# Altium integrated library TI Microcontroller MSP430 16-bit Ultra-Low Power.IntLib: 1463 symbols (part 29 of 130)
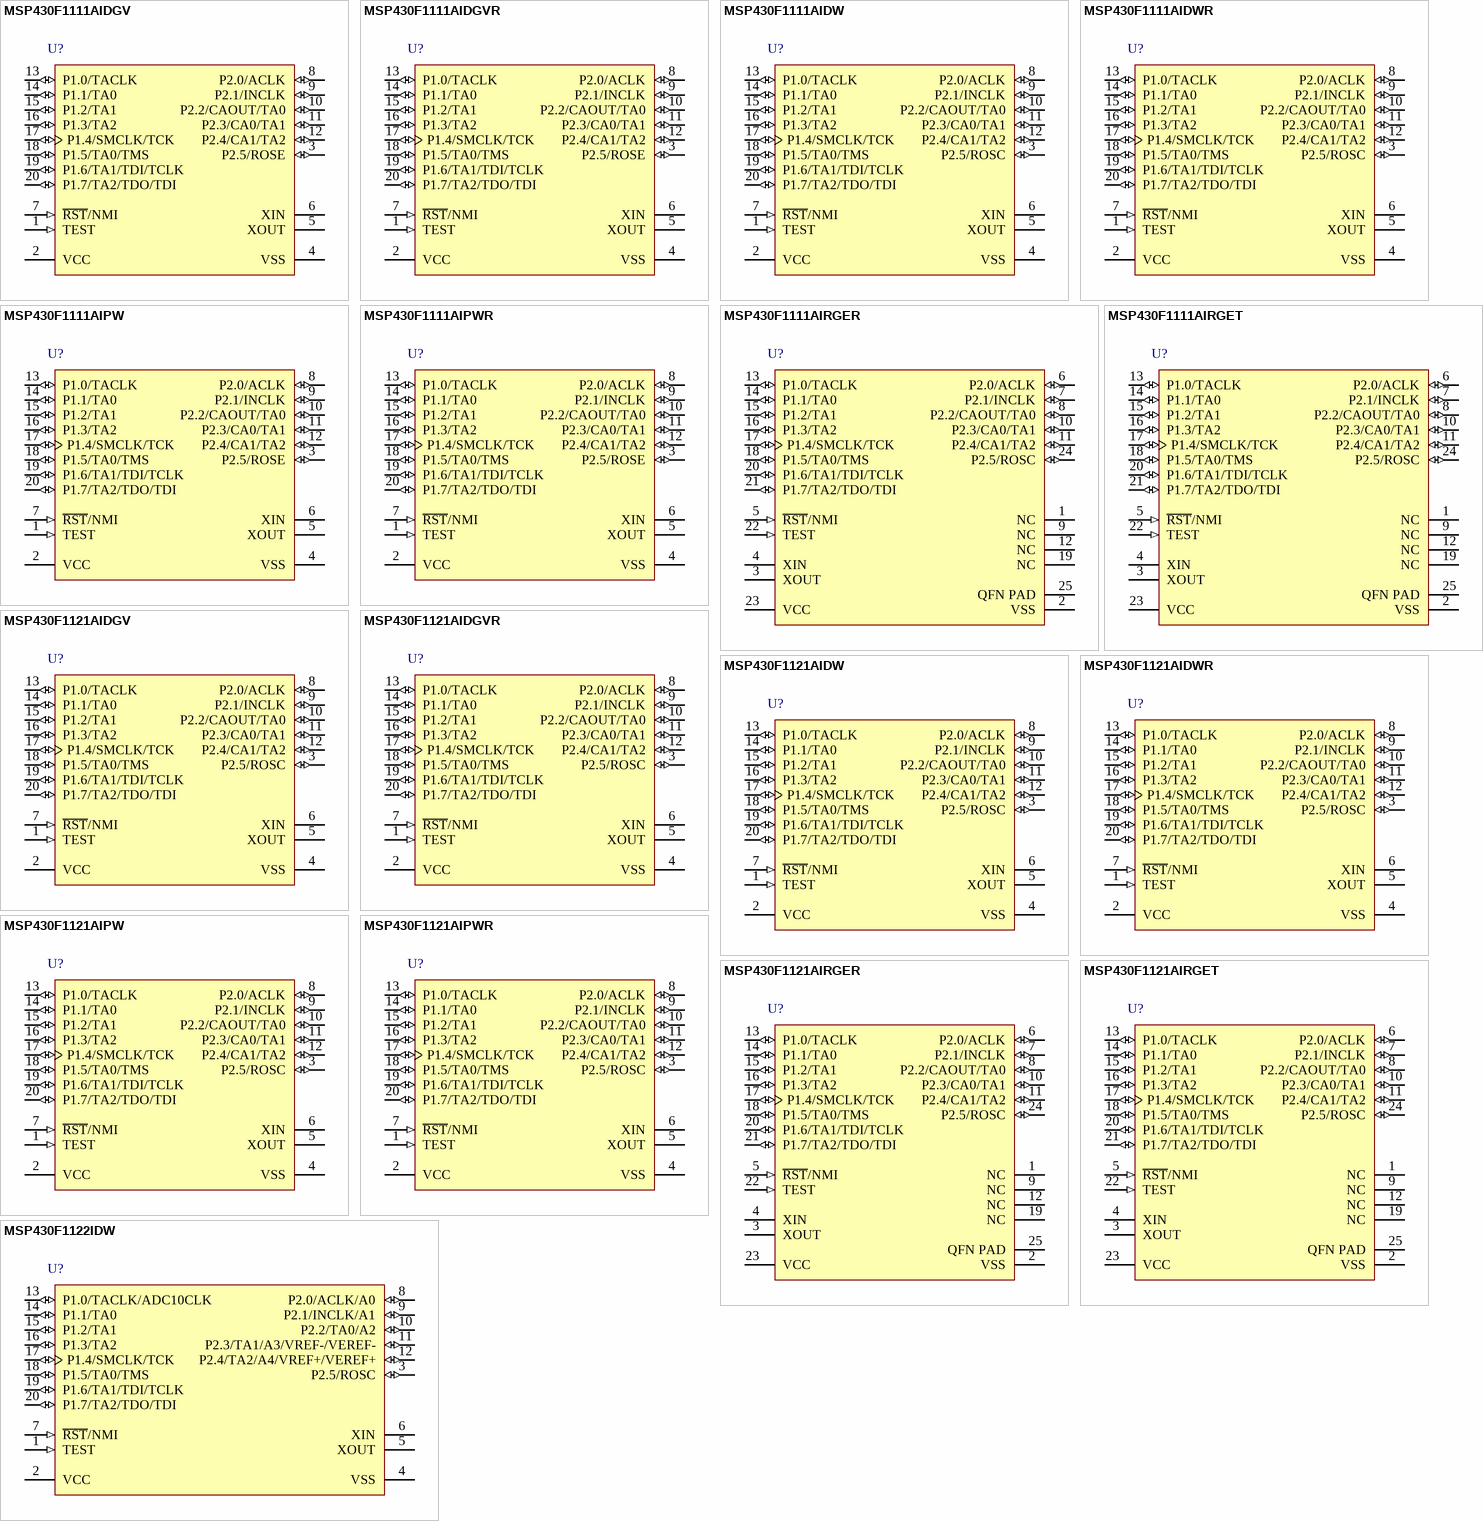
[diagram p251: symbols MSP430F1111AIDGV to MSP430F1122IDW]

## MSP430F1121AIRGET
designator U?
8 MHz Mixed Signal Microcontroller with 4 KB Flash, 256 B SRAM and 14 GPIOs, -40 to 85 degC, 24-pin QFN (RGE), Green (RoHS & no Sb/Br); Manufacturer: Texas Instruments; PartNumber: MSP430F1121AIRGET; ADC: Slope; Comparators: Yes; Flash(KB): 4; Frequency(MHz): 8; GPIO: 14; SRAM(B): 256; SubFamily: 1 Series; Timers - 16-bit: 1; DatasheetVersion: SLAS241I; PackageVersion: 4204104/G; PackageReference: RGE24-2450X2450TP; PackageDescription: 24-Pin Plastic Flat Pack, Body 4 x 4 mm, 0.5 mm Pitch; Supplier 1: Digi-Key; Supplier Part Number 1: 296-32162-2-ND; Supplier 2: Digi-Key; Supplier Part Number 2: 296-32162-1-ND; Supplier 3: Digi-Key; Supplier Part Number 3: 296-32162-6-ND; Supplier 4: Farnell; Supplier Part Number 4: 1903423; Supplier 5: Newark; Supplier Part Number 5: 73T9347; Supplier 6: Newark; Supplier Part Number 6: 90H2219; Supplier 7: Mouser; Supplier Part Number 7: 595-430F1121AIRGET; Eco-Plan: Green (RoHS & no Sb/Br); Watchdog: Yes; Mounting Technology: Surface Mount; Code_JEDEC: MO-220; ComponentLink1Description: Manufacturer URL; ComponentLink1URL: http://www.ti.com/; ComponentLink2Description: Datasheet; ComponentLink2URL: http://www.ti.com/general/docs/lit/getliterature.tsp?genericPartNumber=MSP430F1121A&fileType=pdf; ComponentLink3Description: Package Specification; ComponentLink3URL: http://www.ti.com/litv/pdf/mpqf124f
footprint TI-RGE24-2450X2450TP_N (QFN, 24-Leads, Body 4x4mm, Pitch 0.5mm, Thermal Pad 2.45x2.45mm, IPC Medium Density)
pins: 1 NC "NC pins not internally connected", 2 VSS (power) "Ground reference", 3 XOUT "Output terminal of crystal oscillator", 4 XIN "Input terminal of crystal oscillator", 5 ~{RST}/NMI (in), 6 P2.0/ACLK (io), 7 P2.1/INCLK (io), 8 P2.2/CAOUT/TA0 (io), 9 NC "NC pins not internally connected", 10 P2.3/CA0/TA1 (io), 11 P2.4/CA1/TA2 (io), 12 NC "NC pins not internally connected", 13 P1.0/TACLK (io), 14 P1.1/TA0 (io), 15 P1.2/TA1 (io), 16 P1.3/TA2 (io), 17 P1.4/SMCLK/TCK (io), 18 P1.5/TA0/TMS (io), 19 NC "NC pins not internally connected", 20 P1.6/TA1/TDI/TCLK (io), 21 P1.7/TA2/TDO/TDI (io), 22 TEST (in) "Selects test mode for JTAG pins on Port1. The device protection fuse is connected to TEST.", 23 VCC (power) "Supply voltage", 24 P2.5/ROSC (io), 25 QFN PAD (power) "QFN package pad connection to VSS recommended."

## MSP430F1122IDW
designator U?
8 MHz Mixed Signal Microcontroller with 4 KB Flash, 256 B SRAM and 14 GPIOs, -40 to 85 degC, 20-pin SOIC (DW), Green (RoHS & no Sb/Br); Manufacturer: Texas Instruments; PartNumber: MSP430F1122IDW; ADC: 10-bit SAR; ADC Channels: 5; Brown Out Reset: Yes; Flash(KB): 4; Frequency(MHz): 8; GPIO: 14; SRAM(B): 256; SubFamily: 1 Series; Timers - 16-bit: 1; DatasheetVersion: SLAS361D; PackageVersion: 4040000-4/G; PackageReference: DW20; PackageDescription: 20-Pin Plastic Small Outline, Body 12.8 x 7.5 mm, Pitch 1.27 mm; Supplier 1: Digi-Key; Supplier Part Number 1: 296-13776-5-ND; Supplier 2: Farnell; Supplier Part Number 2: 1471256; Supplier 3: Newark; Supplier Part Number 3: 72K7288; Supplier 4: Mouser; Supplier Part Number 4: 595-430F1122IDW; Eco-Plan: Green (RoHS & no Sb/Br); Temp Sensor: Yes; Watchdog: Yes; Mounting Technology: Surface Mount; Code_JEDEC: MO-013; ComponentLink1Description: Manufacturer URL; ComponentLink1URL: http://www.ti.com/; ComponentLink2Description: Datasheet; ComponentLink2URL: http://www.ti.com/general/docs/lit/getliterature.tsp?genericPartNumber=MSP430F1122&fileType=pdf; ComponentLink3Description: Package Specification; ComponentLink3URL: http://www.ti.com/lit/ml/mpds173a/mpds173a.pdf
footprint TI-DW20_N (SOIC, 20-Leads, Body 12.8x7.5mm, Pitch 1.27mm, IPC Medium Density)
pins: 1 TEST (in) "Selects test mode for JTAG pins on P1.x", 2 VCC (power) "Supply voltage", 3 P2.5/ROSC (io), 4 VSS (power) "Ground reference", 5 XOUT "Output terminal of crystal oscillator", 6 XIN "Input terminal of crystal oscillator", 7 ~{RST}/NMI (in), 8 P2.0/ACLK/A0 (io), 9 P2.1/INCLK/A1 (io), 10 P2.2/TA0/A2 (io), 11 P2.3/TA1/A3/VREF-/VEREF- (io), 12 P2.4/TA2/A4/VREF+/VEREF+ (io), 13 P1.0/TACLK/ADC10CLK (io), 14 P1.1/TA0 (io), 15 P1.2/TA1 (io), 16 P1.3/TA2 (io), 17 P1.4/SMCLK/TCK (io), 18 P1.5/TA0/TMS (io), 19 P1.6/TA1/TDI/TCLK (io), 20 P1.7/TA2/TDO/TDI (io)

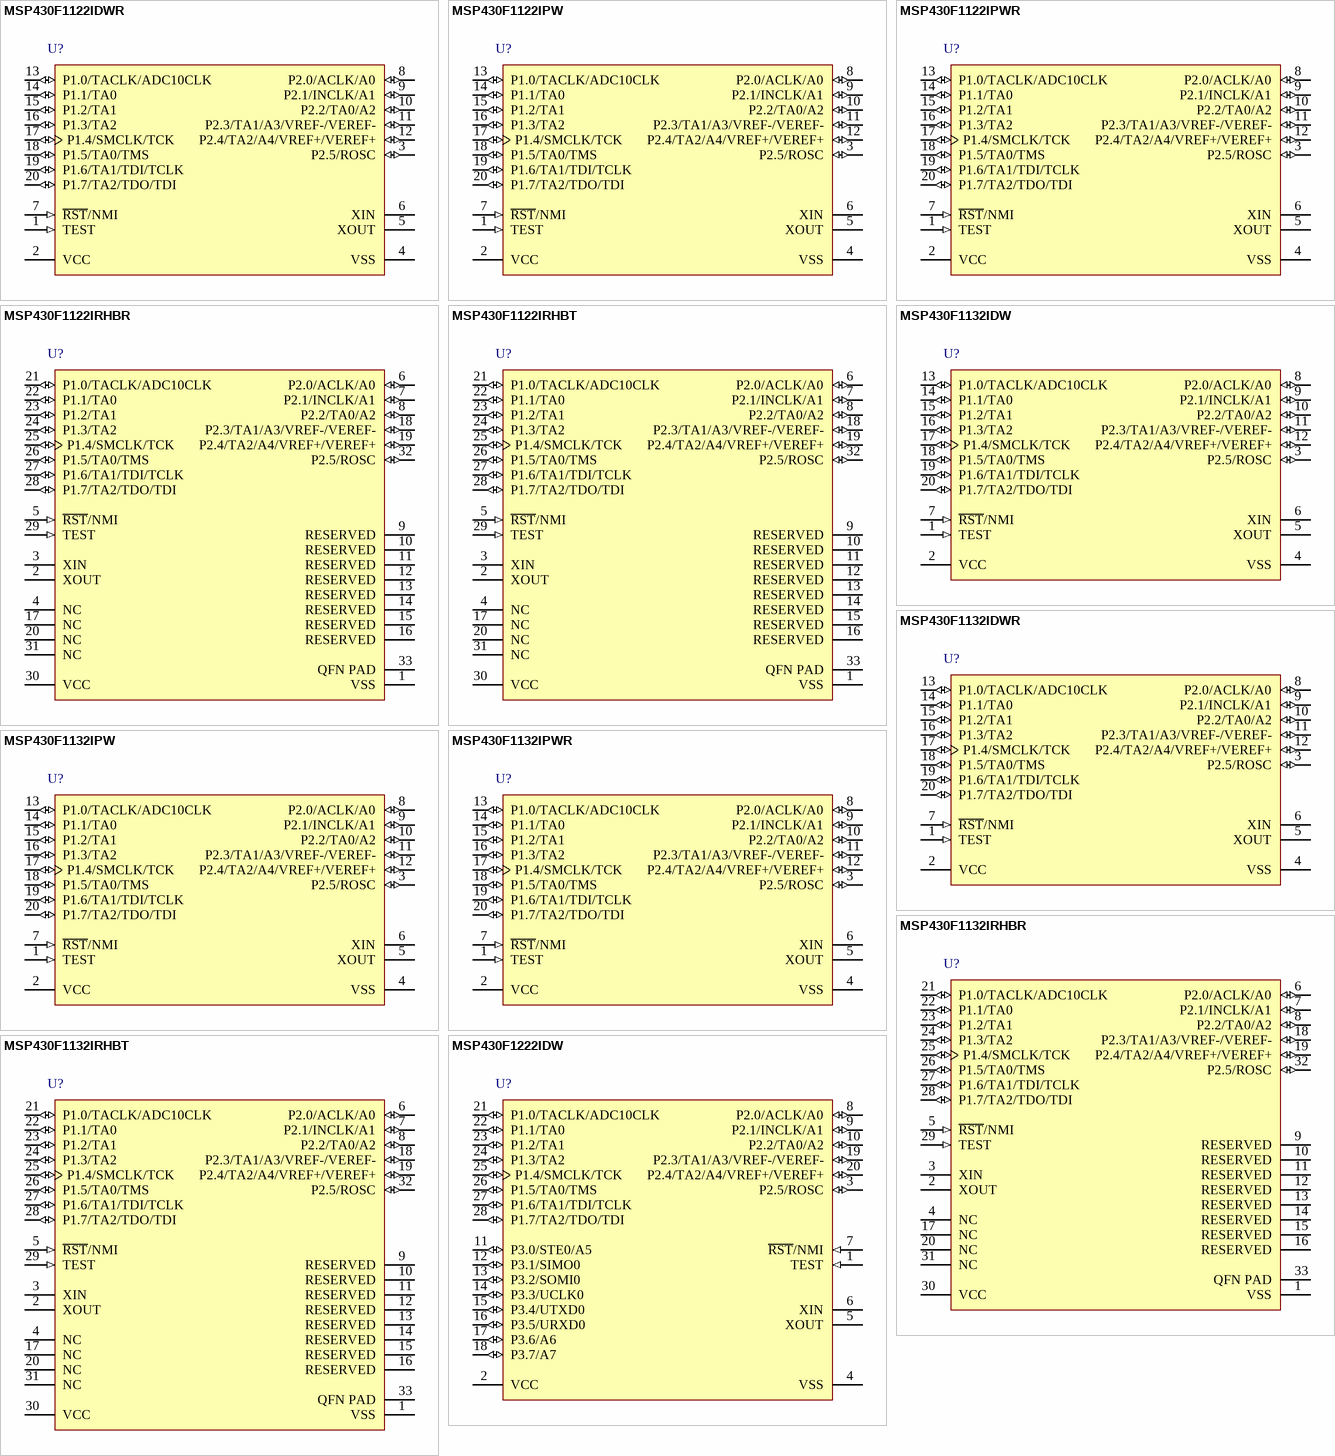
[diagram p41: symbols MSP430F1122IDWR to MSP430F1222IDW]

## MSP430F1122IDWR
designator U?
8 MHz Mixed Signal Microcontroller with 4 KB Flash, 256 B SRAM and 14 GPIOs, -40 to 85 degC, 20-pin SOIC (DW), Green (RoHS & no Sb/Br); Manufacturer: Texas Instruments; PartNumber: MSP430F1122IDWR; ADC: 10-bit SAR; ADC Channels: 5; Brown Out Reset: Yes; Flash(KB): 4; Frequency(MHz): 8; GPIO: 14; SRAM(B): 256; SubFamily: 1 Series; Timers - 16-bit: 1; DatasheetVersion: SLAS361D; PackageVersion: 4040000-4/G; PackageReference: DW20; PackageDescription: 20-Pin Plastic Small Outline, Body 12.8 x 7.5 mm, Pitch 1.27 mm; Supplier 1: Digi-Key; Supplier Part Number 1: MSP430F1122IDWR-ND; Supplier 2: Newark; Supplier Part Number 2: 02E6686; Supplier 3: Mouser; Supplier Part Number 3: 595-430F1122IDWR; Eco-Plan: Green (RoHS & no Sb/Br); Temp Sensor: Yes; Watchdog: Yes; Mounting Technology: Surface Mount; Code_JEDEC: MO-013; ComponentLink1Description: Manufacturer URL; ComponentLink1URL: http://www.ti.com/; ComponentLink2Description: Datasheet; ComponentLink2URL: http://www.ti.com/general/docs/lit/getliterature.tsp?genericPartNumber=MSP430F1122&fileType=pdf; ComponentLink3Description: Package Specification; ComponentLink3URL: http://www.ti.com/lit/ml/mpds173a/mpds173a.pdf
footprint TI-DW20_N (SOIC, 20-Leads, Body 12.8x7.5mm, Pitch 1.27mm, IPC Medium Density)
pins: 1 TEST (in) "Selects test mode for JTAG pins on P1.x", 2 VCC (power) "Supply voltage", 3 P2.5/ROSC (io), 4 VSS (power) "Ground reference", 5 XOUT "Output terminal of crystal oscillator", 6 XIN "Input terminal of crystal oscillator", 7 ~{RST}/NMI (in), 8 P2.0/ACLK/A0 (io), 9 P2.1/INCLK/A1 (io), 10 P2.2/TA0/A2 (io), 11 P2.3/TA1/A3/VREF-/VEREF- (io), 12 P2.4/TA2/A4/VREF+/VEREF+ (io), 13 P1.0/TACLK/ADC10CLK (io), 14 P1.1/TA0 (io), 15 P1.2/TA1 (io), 16 P1.3/TA2 (io), 17 P1.4/SMCLK/TCK (io), 18 P1.5/TA0/TMS (io), 19 P1.6/TA1/TDI/TCLK (io), 20 P1.7/TA2/TDO/TDI (io)

## MSP430F1122IPW
designator U?
8 MHz Mixed Signal Microcontroller with 4 KB Flash, 256 B SRAM and 14 GPIOs, -40 to 85 degC, 20-pin SOP (PW), Green (RoHS & no Sb/Br); Manufacturer: Texas Instruments; PartNumber: MSP430F1122IPW; ADC: 10-bit SAR; ADC Channels: 5; Brown Out Reset: Yes; Flash(KB): 4; Frequency(MHz): 8; GPIO: 14; SRAM(B): 256; SubFamily: 1 Series; Timers - 16-bit: 1; DatasheetVersion: SLAS361D; PackageVersion: 4040064-5/G; PackageReference: PW20; PackageDescription: 20-Pin Plastic Small Outline, Body 6.5 x 4.4 mm, 0.65 mm Pitch; Supplier 1: Digi-Key; Supplier Part Number 1: 296-13777-5-ND; Supplier 2: Farnell; Supplier Part Number 2: 1471257; Supplier 3: Newark; Supplier Part Number 3: 72K7289; Supplier 4: Mouser; Supplier Part Number 4: 595-430F1122IPW; Eco-Plan: Green (RoHS & no Sb/Br); Temp Sensor: Yes; Watchdog: Yes; Mounting Technology: Surface Mount; Code_JEDEC: MO-153; ComponentLink1Description: Manufacturer URL; ComponentLink1URL: http://www.ti.com/; ComponentLink2Description: Datasheet; ComponentLink2URL: http://www.ti.com/general/docs/lit/getliterature.tsp?genericPartNumber=MSP430F1122&fileType=pdf; ComponentLink3Description: Package Specification; ComponentLink3URL: http://www.ti.com.cn/cn/lit/ml/mpds362/mpds362.pdf
footprint TI-PW20_N (SOP, 20-Leads, Body 6.5x4.4mm, Pitch 0.65mm, IPC Medium Density)
pins: 1 TEST (in) "Selects test mode for JTAG pins on P1.x", 2 VCC (power) "Supply voltage", 3 P2.5/ROSC (io), 4 VSS (power) "Ground reference", 5 XOUT "Output terminal of crystal oscillator", 6 XIN "Input terminal of crystal oscillator", 7 ~{RST}/NMI (in), 8 P2.0/ACLK/A0 (io), 9 P2.1/INCLK/A1 (io), 10 P2.2/TA0/A2 (io), 11 P2.3/TA1/A3/VREF-/VEREF- (io), 12 P2.4/TA2/A4/VREF+/VEREF+ (io), 13 P1.0/TACLK/ADC10CLK (io), 14 P1.1/TA0 (io), 15 P1.2/TA1 (io), 16 P1.3/TA2 (io), 17 P1.4/SMCLK/TCK (io), 18 P1.5/TA0/TMS (io), 19 P1.6/TA1/TDI/TCLK (io), 20 P1.7/TA2/TDO/TDI (io)

## MSP430F1122IPWR
designator U?
8 MHz Mixed Signal Microcontroller with 4 KB Flash, 256 B SRAM and 14 GPIOs, -40 to 85 degC, 20-pin SOP (PW), Green (RoHS & no Sb/Br); Manufacturer: Texas Instruments; PartNumber: MSP430F1122IPWR; ADC: 10-bit SAR; ADC Channels: 5; Brown Out Reset: Yes; Flash(KB): 4; Frequency(MHz): 8; GPIO: 14; SRAM(B): 256; SubFamily: 1 Series; Timers - 16-bit: 1; DatasheetVersion: SLAS361D; PackageVersion: 4040064-5/G; PackageReference: PW20; PackageDescription: 20-Pin Plastic Small Outline, Body 6.5 x 4.4 mm, 0.65 mm Pitch; Supplier 1: Digi-Key; Supplier Part Number 1: 296-26174-2-ND; Supplier 2: Digi-Key; Supplier Part Number 2: 296-26174-1-ND; Supplier 3: Digi-Key; Supplier Part Number 3: 296-26174-6-ND; Supplier 4: Newark; Supplier Part Number 4: 02E6688; Supplier 5: Mouser; Supplier Part Number 5: 595-430F1122IPWR; Eco-Plan: Green (RoHS & no Sb/Br); Temp Sensor: Yes; Watchdog: Yes; Mounting Technology: Surface Mount; Code_JEDEC: MO-153; ComponentLink1Description: Manufacturer URL; ComponentLink1URL: http://www.ti.com/; ComponentLink2Description: Datasheet; ComponentLink2URL: http://www.ti.com/general/docs/lit/getliterature.tsp?genericPartNumber=MSP430F1122&fileType=pdf; ComponentLink3Description: Package Specification; ComponentLink3URL: http://www.ti.com.cn/cn/lit/ml/mpds362/mpds362.pdf
footprint TI-PW20_N (SOP, 20-Leads, Body 6.5x4.4mm, Pitch 0.65mm, IPC Medium Density)
pins: 1 TEST (in) "Selects test mode for JTAG pins on P1.x", 2 VCC (power) "Supply voltage", 3 P2.5/ROSC (io), 4 VSS (power) "Ground reference", 5 XOUT "Output terminal of crystal oscillator", 6 XIN "Input terminal of crystal oscillator", 7 ~{RST}/NMI (in), 8 P2.0/ACLK/A0 (io), 9 P2.1/INCLK/A1 (io), 10 P2.2/TA0/A2 (io), 11 P2.3/TA1/A3/VREF-/VEREF- (io), 12 P2.4/TA2/A4/VREF+/VEREF+ (io), 13 P1.0/TACLK/ADC10CLK (io), 14 P1.1/TA0 (io), 15 P1.2/TA1 (io), 16 P1.3/TA2 (io), 17 P1.4/SMCLK/TCK (io), 18 P1.5/TA0/TMS (io), 19 P1.6/TA1/TDI/TCLK (io), 20 P1.7/TA2/TDO/TDI (io)

## MSP430F1122IRHBR
designator U?
8 MHz Mixed Signal Microcontroller with 4 KB Flash, 256 B SRAM and 14 GPIOs, -40 to 85 degC, 32-pin QFN (RHB), Green (RoHS & no Sb/Br); Manufacturer: Texas Instruments; PartNumber: MSP430F1122IRHBR; ADC: 10-bit SAR; ADC Channels: 5; Brown Out Reset: Yes; Flash(KB): 4; Frequency(MHz): 8; GPIO: 14; SRAM(B): 256; SubFamily: 1 Series; Timers - 16-bit: 1; DatasheetVersion: SLAS361D; PackageVersion: 4204326/D; PackageReference: RHB32-3450X3450TP; PackageDescription: 32-Pin Plastic Flat Pack, Body 5 x 5 mm, Pitch 0.5 mm; Supplier 1: Digi-Key; Supplier Part Number 1: MSP430F1122IRHBR-ND; Supplier 2: Newark; Supplier Part Number 2: 21J8823; Supplier 3: Mouser; Supplier Part Number 3: 595-MSP430F1122IRHBR; Eco-Plan: Green (RoHS & no Sb/Br); Temp Sensor: Yes; Watchdog: Yes; Mounting Technology: Surface Mount; Code_JEDEC: MO-220; ComponentLink1Description: Manufacturer URL; ComponentLink1URL: http://www.ti.com/; ComponentLink2Description: Datasheet; ComponentLink2URL: http://www.ti.com/general/docs/lit/getliterature.tsp?genericPartNumber=MSP430F1122&fileType=pdf; ComponentLink3Description: Package Specification; ComponentLink3URL: http://www.ti.com/lit/ml/mpqf130c/mpqf130c.pdf
footprint TI-RHB32-3450X3450TP_N (QFN, 32-Leads, Body 5x5mm, Pitch 0.5mm, Thermal Pad 3.45x3.45mm, IPC Medium Density)
pins: 1 VSS (power) "Ground reference", 2 XOUT "Output terminal of crystal oscillator", 3 XIN "Input terminal of crystal oscillator", 4 NC "Not connected internally. Recommended connection to VSS", 5 ~{RST}/NMI (in), 6 P2.0/ACLK/A0 (io), 7 P2.1/INCLK/A1 (io), 8 P2.2/TA0/A2 (io), 9 RESERVED, 10 RESERVED, 11 RESERVED, 12 RESERVED, 13 RESERVED, 14 RESERVED, 15 RESERVED, 16 RESERVED, 17 NC "Not connected internally. Recommended connection to VSS", 18 P2.3/TA1/A3/VREF-/VEREF- (io), 19 P2.4/TA2/A4/VREF+/VEREF+ (io), 20 NC "Not connected internally. Recommended connection to VSS", 21 P1.0/TACLK/ADC10CLK (io), 22 P1.1/TA0 (io), 23 P1.2/TA1 (io), 24 P1.3/TA2 (io), 25 P1.4/SMCLK/TCK (io), 26 P1.5/TA0/TMS (io), 27 P1.6/TA1/TDI/TCLK (io), 28 P1.7/TA2/TDO/TDI (io), 29 TEST (in) "Selects test mode for JTAG pins on P1.x", 30 VCC (power) "Supply voltage", 31 NC "Not connected internally. Recommended connection to VSS", 32 P2.5/ROSC (io), 33 QFN PAD (power) "QFN package pad connection to VSS recommended"

## MSP430F1122IRHBT
designator U?
8 MHz Mixed Signal Microcontroller with 4 KB Flash, 256 B SRAM and 14 GPIOs, -40 to 85 degC, 32-pin QFN (RHB), Green (RoHS & no Sb/Br); Manufacturer: Texas Instruments; PartNumber: MSP430F1122IRHBT; ADC: 10-bit SAR; ADC Channels: 5; Brown Out Reset: Yes; Flash(KB): 4; Frequency(MHz): 8; GPIO: 14; SRAM(B): 256; SubFamily: 1 Series; Timers - 16-bit: 1; DatasheetVersion: SLAS361D; PackageVersion: 4204326/D; PackageReference: RHB32-3450X3450TP; PackageDescription: 32-Pin Plastic Flat Pack, Body 5 x 5 mm, Pitch 0.5 mm; Supplier 1: Digi-Key; Supplier Part Number 1: 296-17137-2-ND; Supplier 2: Digi-Key; Supplier Part Number 2: 296-17137-1-ND; Supplier 3: Digi-Key; Supplier Part Number 3: 296-17137-6-ND; Supplier 4: Newark; Supplier Part Number 4: 21J8824; Supplier 5: Mouser; Supplier Part Number 5: 595-MSP430F1122IRHBT; Eco-Plan: Green (RoHS & no Sb/Br); Temp Sensor: Yes; Watchdog: Yes; Mounting Technology: Surface Mount; Code_JEDEC: MO-220; ComponentLink1Description: Manufacturer URL; ComponentLink1URL: http://www.ti.com/; ComponentLink2Description: Datasheet; ComponentLink2URL: http://www.ti.com/general/docs/lit/getliterature.tsp?genericPartNumber=MSP430F1122&fileType=pdf; ComponentLink3Description: Package Specification; ComponentLink3URL: http://www.ti.com/lit/ml/mpqf130c/mpqf130c.pdf
footprint TI-RHB32-3450X3450TP_N (QFN, 32-Leads, Body 5x5mm, Pitch 0.5mm, Thermal Pad 3.45x3.45mm, IPC Medium Density)
pins: 1 VSS (power) "Ground reference", 2 XOUT "Output terminal of crystal oscillator", 3 XIN "Input terminal of crystal oscillator", 4 NC "Not connected internally. Recommended connection to VSS", 5 ~{RST}/NMI (in), 6 P2.0/ACLK/A0 (io), 7 P2.1/INCLK/A1 (io), 8 P2.2/TA0/A2 (io), 9 RESERVED, 10 RESERVED, 11 RESERVED, 12 RESERVED, 13 RESERVED, 14 RESERVED, 15 RESERVED, 16 RESERVED, 17 NC "Not connected internally. Recommended connection to VSS", 18 P2.3/TA1/A3/VREF-/VEREF- (io), 19 P2.4/TA2/A4/VREF+/VEREF+ (io), 20 NC "Not connected internally. Recommended connection to VSS", 21 P1.0/TACLK/ADC10CLK (io), 22 P1.1/TA0 (io), 23 P1.2/TA1 (io), 24 P1.3/TA2 (io), 25 P1.4/SMCLK/TCK (io), 26 P1.5/TA0/TMS (io), 27 P1.6/TA1/TDI/TCLK (io), 28 P1.7/TA2/TDO/TDI (io), 29 TEST (in) "Selects test mode for JTAG pins on P1.x", 30 VCC (power) "Supply voltage", 31 NC "Not connected internally. Recommended connection to VSS", 32 P2.5/ROSC (io), 33 QFN PAD (power) "QFN package pad connection to VSS recommended"

## MSP430F1132IDW
designator U?
8 MHz Mixed Signal Microcontroller with 8 KB Flash, 256 B SRAM and 14 GPIOs, -40 to 85 degC, 20-pin SOIC (DW), Green (RoHS & no Sb/Br); Manufacturer: Texas Instruments; PartNumber: MSP430F1132IDW; ADC: 10-bit SAR; ADC Channels: 5; Brown Out Reset: Yes; Flash(KB): 8; GPIO: 14; SRAM(B): 256; SubFamily: 1 Series; Timers - 16-bit: 1; DatasheetVersion: SLAS361D; PackageVersion: 4040000-4/G; PackageReference: DW20; PackageDescription: 20-Pin Plastic Small Outline, Body 12.8 x 7.5 mm, Pitch 1.27 mm; Supplier 1: Digi-Key; Supplier Part Number 1: 296-13778-5-ND; Supplier 2: Farnell; Supplier Part Number 2: 1537158; Supplier 3: Newark; Supplier Part Number 3: 02E6689; Supplier 4: Mouser; Supplier Part Number 4: 595-430F1132IDW; Eco-Plan: Green (RoHS & no Sb/Br); Frequency(MHz): 8; Temp Sensor: Yes; Watchdog: Yes; Mounting Technology: Surface Mount; Code_JEDEC: MO-013; ComponentLink1Description: Manufacturer URL; ComponentLink1URL: http://www.ti.com/; ComponentLink2Description: Datasheet; ComponentLink2URL: http://www.ti.com/general/docs/lit/getliterature.tsp?genericPartNumber=MSP430F1132&fileType=pdf; ComponentLink3Description: Package Specification; ComponentLink3URL: http://www.ti.com/lit/ml/mpds173a/mpds173a.pdf
footprint TI-DW20_N (SOIC, 20-Leads, Body 12.8x7.5mm, Pitch 1.27mm, IPC Medium Density)
pins: 1 TEST (in) "Selects test mode for JTAG pins on P1.x", 2 VCC (power) "Supply voltage", 3 P2.5/ROSC (io), 4 VSS (power) "Ground reference", 5 XOUT "Output terminal of crystal oscillator", 6 XIN "Input terminal of crystal oscillator", 7 ~{RST}/NMI (in), 8 P2.0/ACLK/A0 (io), 9 P2.1/INCLK/A1 (io), 10 P2.2/TA0/A2 (io), 11 P2.3/TA1/A3/VREF-/VEREF- (io), 12 P2.4/TA2/A4/VREF+/VEREF+ (io), 13 P1.0/TACLK/ADC10CLK (io), 14 P1.1/TA0 (io), 15 P1.2/TA1 (io), 16 P1.3/TA2 (io), 17 P1.4/SMCLK/TCK (io), 18 P1.5/TA0/TMS (io), 19 P1.6/TA1/TDI/TCLK (io), 20 P1.7/TA2/TDO/TDI (io)

## MSP430F1132IDWR
designator U?
8 MHz Mixed Signal Microcontroller with 8 KB Flash, 256 B SRAM and 14 GPIOs, -40 to 85 degC, 20-pin SOIC (DW), Green (RoHS & no Sb/Br); Manufacturer: Texas Instruments; PartNumber: MSP430F1132IDWR; ADC: 10-bit SAR; ADC Channels: 5; Brown Out Reset: Yes; Flash(KB): 8; GPIO: 14; SRAM(B): 256; SubFamily: 1 Series; Timers - 16-bit: 1; DatasheetVersion: SLAS361D; PackageVersion: 4040000-4/G; PackageReference: DW20; PackageDescription: 20-Pin Plastic Small Outline, Body 12.8 x 7.5 mm, Pitch 1.27 mm; Supplier 1: Digi-Key; Supplier Part Number 1: MSP430F1132IDWR-ND; Supplier 2: Newark; Supplier Part Number 2: 02E6690; Supplier 3: Mouser; Supplier Part Number 3: 595-430F1132IDWR; Eco-Plan: Green (RoHS & no Sb/Br); Frequency(MHz): 8; Temp Sensor: Yes; Watchdog: Yes; Mounting Technology: Surface Mount; Code_JEDEC: MO-013; ComponentLink1Description: Manufacturer URL; ComponentLink1URL: http://www.ti.com/; ComponentLink2Description: Datasheet; ComponentLink2URL: http://www.ti.com/general/docs/lit/getliterature.tsp?genericPartNumber=MSP430F1132&fileType=pdf; ComponentLink3Description: Package Specification; ComponentLink3URL: http://www.ti.com/lit/ml/mpds173a/mpds173a.pdf
footprint TI-DW20_N (SOIC, 20-Leads, Body 12.8x7.5mm, Pitch 1.27mm, IPC Medium Density)
pins: 1 TEST (in) "Selects test mode for JTAG pins on P1.x", 2 VCC (power) "Supply voltage", 3 P2.5/ROSC (io), 4 VSS (power) "Ground reference", 5 XOUT "Output terminal of crystal oscillator", 6 XIN "Input terminal of crystal oscillator", 7 ~{RST}/NMI (in), 8 P2.0/ACLK/A0 (io), 9 P2.1/INCLK/A1 (io), 10 P2.2/TA0/A2 (io), 11 P2.3/TA1/A3/VREF-/VEREF- (io), 12 P2.4/TA2/A4/VREF+/VEREF+ (io), 13 P1.0/TACLK/ADC10CLK (io), 14 P1.1/TA0 (io), 15 P1.2/TA1 (io), 16 P1.3/TA2 (io), 17 P1.4/SMCLK/TCK (io), 18 P1.5/TA0/TMS (io), 19 P1.6/TA1/TDI/TCLK (io), 20 P1.7/TA2/TDO/TDI (io)

## MSP430F1132IPW
designator U?
8 MHz Mixed Signal Microcontroller with 8 KB Flash, 256 B SRAM and 14 GPIOs, -40 to 85 degC, 20-pin SOP (PW), Green (RoHS & no Sb/Br); Manufacturer: Texas Instruments; PartNumber: MSP430F1132IPW; ADC: 10-bit SAR; ADC Channels: 5; Brown Out Reset: Yes; Flash(KB): 8; GPIO: 14; SRAM(B): 256; SubFamily: 1 Series; Timers - 16-bit: 1; DatasheetVersion: SLAS361D; PackageVersion: 4040064-5/G; PackageReference: PW20; PackageDescription: 20-Pin Plastic Small Outline, Body 6.5 x 4.4 mm, 0.65 mm Pitch; Supplier 1: Digi-Key; Supplier Part Number 1: 296-13779-5-ND; Supplier 2: Farnell; Supplier Part Number 2: 1135962; Supplier 3: Newark; Supplier Part Number 3: 02E6691; Supplier 4: Mouser; Supplier Part Number 4: 595-430F1132IPW; Eco-Plan: Green (RoHS & no Sb/Br); Frequency(MHz): 8; Temp Sensor: Yes; Watchdog: Yes; Mounting Technology: Surface Mount; Code_JEDEC: MO-153; ComponentLink1Description: Manufacturer URL; ComponentLink1URL: http://www.ti.com/; ComponentLink2Description: Datasheet; ComponentLink2URL: http://www.ti.com/general/docs/lit/getliterature.tsp?genericPartNumber=MSP430F1132&fileType=pdf; ComponentLink3Description: Package Specification; ComponentLink3URL: http://www.ti.com.cn/cn/lit/ml/mpds362/mpds362.pdf
footprint TI-PW20_N (SOP, 20-Leads, Body 6.5x4.4mm, Pitch 0.65mm, IPC Medium Density)
pins: 1 TEST (in) "Selects test mode for JTAG pins on P1.x", 2 VCC (power) "Supply voltage", 3 P2.5/ROSC (io), 4 VSS (power) "Ground reference", 5 XOUT "Output terminal of crystal oscillator", 6 XIN "Input terminal of crystal oscillator", 7 ~{RST}/NMI (in), 8 P2.0/ACLK/A0 (io), 9 P2.1/INCLK/A1 (io), 10 P2.2/TA0/A2 (io), 11 P2.3/TA1/A3/VREF-/VEREF- (io), 12 P2.4/TA2/A4/VREF+/VEREF+ (io), 13 P1.0/TACLK/ADC10CLK (io), 14 P1.1/TA0 (io), 15 P1.2/TA1 (io), 16 P1.3/TA2 (io), 17 P1.4/SMCLK/TCK (io), 18 P1.5/TA0/TMS (io), 19 P1.6/TA1/TDI/TCLK (io), 20 P1.7/TA2/TDO/TDI (io)

## MSP430F1132IPWR
designator U?
8 MHz Mixed Signal Microcontroller with 8 KB Flash, 256 B SRAM and 14 GPIOs, -40 to 85 degC, 20-pin SOP (PW), Green (RoHS & no Sb/Br); Manufacturer: Texas Instruments; PartNumber: MSP430F1132IPWR; ADC: 10-bit SAR; ADC Channels: 5; Brown Out Reset: Yes; Flash(KB): 8; GPIO: 14; SRAM(B): 256; SubFamily: 1 Series; Timers - 16-bit: 1; DatasheetVersion: SLAS361D; PackageVersion: 4040064-5/G; PackageReference: PW20; PackageDescription: 20-Pin Plastic Small Outline, Body 6.5 x 4.4 mm, 0.65 mm Pitch; Supplier 1: Digi-Key; Supplier Part Number 1: 296-26175-2-ND; Supplier 2: Digi-Key; Supplier Part Number 2: 296-26175-1-ND; Supplier 3: Digi-Key; Supplier Part Number 3: 296-26175-6-ND; Supplier 4: Newark; Supplier Part Number 4: 02E6692; Supplier 5: Mouser; Supplier Part Number 5: 595-430F1132IPWR; Eco-Plan: Green (RoHS & no Sb/Br); Frequency(MHz): 8; Temp Sensor: Yes; Watchdog: Yes; Mounting Technology: Surface Mount; Code_JEDEC: MO-153; ComponentLink1Description: Manufacturer URL; ComponentLink1URL: http://www.ti.com/; ComponentLink2Description: Datasheet; ComponentLink2URL: http://www.ti.com/general/docs/lit/getliterature.tsp?genericPartNumber=MSP430F1132&fileType=pdf; ComponentLink3Description: Package Specification; ComponentLink3URL: http://www.ti.com.cn/cn/lit/ml/mpds362/mpds362.pdf
footprint TI-PW20_N (SOP, 20-Leads, Body 6.5x4.4mm, Pitch 0.65mm, IPC Medium Density)
pins: 1 TEST (in) "Selects test mode for JTAG pins on P1.x", 2 VCC (power) "Supply voltage", 3 P2.5/ROSC (io), 4 VSS (power) "Ground reference", 5 XOUT "Output terminal of crystal oscillator", 6 XIN "Input terminal of crystal oscillator", 7 ~{RST}/NMI (in), 8 P2.0/ACLK/A0 (io), 9 P2.1/INCLK/A1 (io), 10 P2.2/TA0/A2 (io), 11 P2.3/TA1/A3/VREF-/VEREF- (io), 12 P2.4/TA2/A4/VREF+/VEREF+ (io), 13 P1.0/TACLK/ADC10CLK (io), 14 P1.1/TA0 (io), 15 P1.2/TA1 (io), 16 P1.3/TA2 (io), 17 P1.4/SMCLK/TCK (io), 18 P1.5/TA0/TMS (io), 19 P1.6/TA1/TDI/TCLK (io), 20 P1.7/TA2/TDO/TDI (io)

## MSP430F1132IRHBR
designator U?
8 MHz Mixed Signal Microcontroller with 8 KB Flash, 256 B SRAM and 14 GPIOs, -40 to 85 degC, 32-pin QFN (RHB), Green (RoHS & no Sb/Br); Manufacturer: Texas Instruments; PartNumber: MSP430F1132IRHBR; ADC: 10-bit SAR; ADC Channels: 5; Brown Out Reset: Yes; Flash(KB): 8; GPIO: 14; SRAM(B): 256; SubFamily: 1 Series; Timers - 16-bit: 1; DatasheetVersion: SLAS361D; PackageVersion: 4204326/D; PackageReference: RHB32-3450X3450TP; PackageDescription: 32-Pin Plastic Flat Pack, Body 5 x 5 mm, Pitch 0.5 mm; Supplier 1: Digi-Key; Supplier Part Number 1: MSP430F1132IRHBR-ND; Supplier 2: Newark; Supplier Part Number 2: 21J8825; Supplier 3: Mouser; Supplier Part Number 3: 595-MSP430F1132IRHBR; Eco-Plan: Green (RoHS & no Sb/Br); Frequency(MHz): 8; Temp Sensor: Yes; Watchdog: Yes; Mounting Technology: Surface Mount; Code_JEDEC: MO-220; ComponentLink1Description: Manufacturer URL; ComponentLink1URL: http://www.ti.com/; ComponentLink2Description: Datasheet; ComponentLink2URL: http://www.ti.com/general/docs/lit/getliterature.tsp?genericPartNumber=MSP430F1132&fileType=pdf; ComponentLink3Description: Package Specification; ComponentLink3URL: http://www.ti.com/lit/ml/mpqf130c/mpqf130c.pdf
footprint TI-RHB32-3450X3450TP_N (QFN, 32-Leads, Body 5x5mm, Pitch 0.5mm, Thermal Pad 3.45x3.45mm, IPC Medium Density)
pins: 1 VSS (power) "Ground reference", 2 XOUT "Output terminal of crystal oscillator", 3 XIN "Input terminal of crystal oscillator", 4 NC "Not connected internally. Recommended connection to VSS", 5 ~{RST}/NMI (in), 6 P2.0/ACLK/A0 (io), 7 P2.1/INCLK/A1 (io), 8 P2.2/TA0/A2 (io), 9 RESERVED, 10 RESERVED, 11 RESERVED, 12 RESERVED, 13 RESERVED, 14 RESERVED, 15 RESERVED, 16 RESERVED, 17 NC "Not connected internally. Recommended connection to VSS", 18 P2.3/TA1/A3/VREF-/VEREF- (io), 19 P2.4/TA2/A4/VREF+/VEREF+ (io), 20 NC "Not connected internally. Recommended connection to VSS", 21 P1.0/TACLK/ADC10CLK (io), 22 P1.1/TA0 (io), 23 P1.2/TA1 (io), 24 P1.3/TA2 (io), 25 P1.4/SMCLK/TCK (io), 26 P1.5/TA0/TMS (io), 27 P1.6/TA1/TDI/TCLK (io), 28 P1.7/TA2/TDO/TDI (io), 29 TEST (in) "Selects test mode for JTAG pins on P1.x", 30 VCC (power) "Supply voltage", 31 NC "Not connected internally. Recommended connection to VSS", 32 P2.5/ROSC (io), 33 QFN PAD (power) "QFN package pad connection to VSS recommended"

## MSP430F1132IRHBT
designator U?
8 MHz Mixed Signal Microcontroller with 8 KB Flash, 256 B SRAM and 14 GPIOs, -40 to 85 degC, 32-pin QFN (RHB), Green (RoHS & no Sb/Br); Manufacturer: Texas Instruments; PartNumber: MSP430F1132IRHBT; ADC: 10-bit SAR; ADC Channels: 5; Brown Out Reset: Yes; Flash(KB): 8; GPIO: 14; SRAM(B): 256; SubFamily: 1 Series; Timers - 16-bit: 1; DatasheetVersion: SLAS361D; PackageVersion: 4204326/D; PackageReference: RHB32-3450X3450TP; PackageDescription: 32-Pin Plastic Flat Pack, Body 5 x 5 mm, Pitch 0.5 mm; Supplier 1: Digi-Key; Supplier Part Number 1: 296-17133-2-ND; Supplier 2: Digi-Key; Supplier Part Number 2: 296-17133-1-ND; Supplier 3: Digi-Key; Supplier Part Number 3: 296-17133-6-ND; Supplier 4: Newark; Supplier Part Number 4: 21J8826; Supplier 5: Mouser; Supplier Part Number 5: 595-MSP430F1132IRHBT; Eco-Plan: Green (RoHS & no Sb/Br); Frequency(MHz): 8; Temp Sensor: Yes; Watchdog: Yes; Mounting Technology: Surface Mount; Code_JEDEC: MO-220; ComponentLink1Description: Manufacturer URL; ComponentLink1URL: http://www.ti.com/; ComponentLink2Description: Datasheet; ComponentLink2URL: http://www.ti.com/general/docs/lit/getliterature.tsp?genericPartNumber=MSP430F1132&fileType=pdf; ComponentLink3Description: Package Specification; ComponentLink3URL: http://www.ti.com/lit/ml/mpqf130c/mpqf130c.pdf
footprint TI-RHB32-3450X3450TP_N (QFN, 32-Leads, Body 5x5mm, Pitch 0.5mm, Thermal Pad 3.45x3.45mm, IPC Medium Density)
pins: 1 VSS (power) "Ground reference", 2 XOUT "Output terminal of crystal oscillator", 3 XIN "Input terminal of crystal oscillator", 4 NC "Not connected internally. Recommended connection to VSS", 5 ~{RST}/NMI (in), 6 P2.0/ACLK/A0 (io), 7 P2.1/INCLK/A1 (io), 8 P2.2/TA0/A2 (io), 9 RESERVED, 10 RESERVED, 11 RESERVED, 12 RESERVED, 13 RESERVED, 14 RESERVED, 15 RESERVED, 16 RESERVED, 17 NC "Not connected internally. Recommended connection to VSS", 18 P2.3/TA1/A3/VREF-/VEREF- (io), 19 P2.4/TA2/A4/VREF+/VEREF+ (io), 20 NC "Not connected internally. Recommended connection to VSS", 21 P1.0/TACLK/ADC10CLK (io), 22 P1.1/TA0 (io), 23 P1.2/TA1 (io), 24 P1.3/TA2 (io), 25 P1.4/SMCLK/TCK (io), 26 P1.5/TA0/TMS (io), 27 P1.6/TA1/TDI/TCLK (io), 28 P1.7/TA2/TDO/TDI (io), 29 TEST (in) "Selects test mode for JTAG pins on P1.x", 30 VCC (power) "Supply voltage", 31 NC "Not connected internally. Recommended connection to VSS", 32 P2.5/ROSC (io), 33 QFN PAD (power) "QFN package pad connection to VSS recommended"

## MSP430F1222IDW
designator U?
8 MHz Mixed Signal Microcontroller with 4 KB Flash, 256 B SRAM and 22 GPIOs, -40 to 85 degC, 28-SOIC (DW), Green (RoHS & no Sb/Br); Manufacturer: Texas Instruments; PartNumber: MSP430F1222IDW; ADC: 10-bit SAR; ADC Channels: 8; Brown Out Reset: Yes; Flash(KB): 4; GPIO: 22; SRAM(B): 256; SubFamily: 1 Series; Timers - 16-bit: 1; DatasheetVersion: SLAS361D; PackageVersion: 4040000-6/G; PackageReference: DW28; PackageDescription: 28-Pin Plastic Small Outline, Body 17.90 x 7.50 mm, Pitch 1.27 mm; Supplier 1: Digi-Key; Supplier Part Number 1: 296-13780-5-ND; Supplier 2: Farnell; Supplier Part Number 2: 1471264; Supplier 3: Newark; Supplier Part Number 3: 02E6693; Supplier 4: Mouser; Supplier Part Number 4: 595-430F1222IDW; Eco-Plan: Green (RoHS & no Sb/Br); Frequency(MHz): 8; Temp Sensor: Yes; USART: 1; Watchdog: Yes; Mounting Technology: Surface Mount; Code_JEDEC: MS-013; ComponentLink1Description: Manufacturer URL; ComponentLink1URL: http://www.ti.com/; ComponentLink2Description: Datasheet; ComponentLink2URL: http://www.ti.com/general/docs/lit/getliterature.tsp?genericPartNumber=MSP430F1222&fileType=pdf; ComponentLink3Description: Package Specification; ComponentLink3URL: http://www.ti.com/lit/ml/mpds175a/mpds175a.pdf
footprint TI-DW28_N (SOIC, 28-Leads, Body 17.9x7.5mm, Pitch 1.27mm, IPC Medium Density)
pins: 1 TEST (in) "Selects test mode for JTAG pins on P1.x", 2 VCC (power) "Supply voltage", 3 P2.5/ROSC (io), 4 VSS (power) "Ground reference", 5 XOUT "Output terminal of crystal oscillator", 6 XIN "Input terminal of crystal oscillator", 7 ~{RST}/NMI (in), 8 P2.0/ACLK/A0 (io), 9 P2.1/INCLK/A1 (io), 10 P2.2/TA0/A2 (io), 11 P3.0/STE0/A5 (io), 12 P3.1/SIMO0 (io), 13 P3.2/SOMI0 (io), 14 P3.3/UCLK0 (io), 15 P3.4/UTXD0 (io), 16 P3.5/URXD0 (io), 17 P3.6/A6 (io), 18 P3.7/A7 (io), 19 P2.3/TA1/A3/VREF-/VEREF- (io), 20 P2.4/TA2/A4/VREF+/VEREF+ (io), 21 P1.0/TACLK/ADC10CLK (io), 22 P1.1/TA0 (io), 23 P1.2/TA1 (io), 24 P1.3/TA2 (io), 25 P1.4/SMCLK/TCK (io), 26 P1.5/TA0/TMS (io), 27 P1.6/TA1/TDI/TCLK (io), 28 P1.7/TA2/TDO/TDI (io)

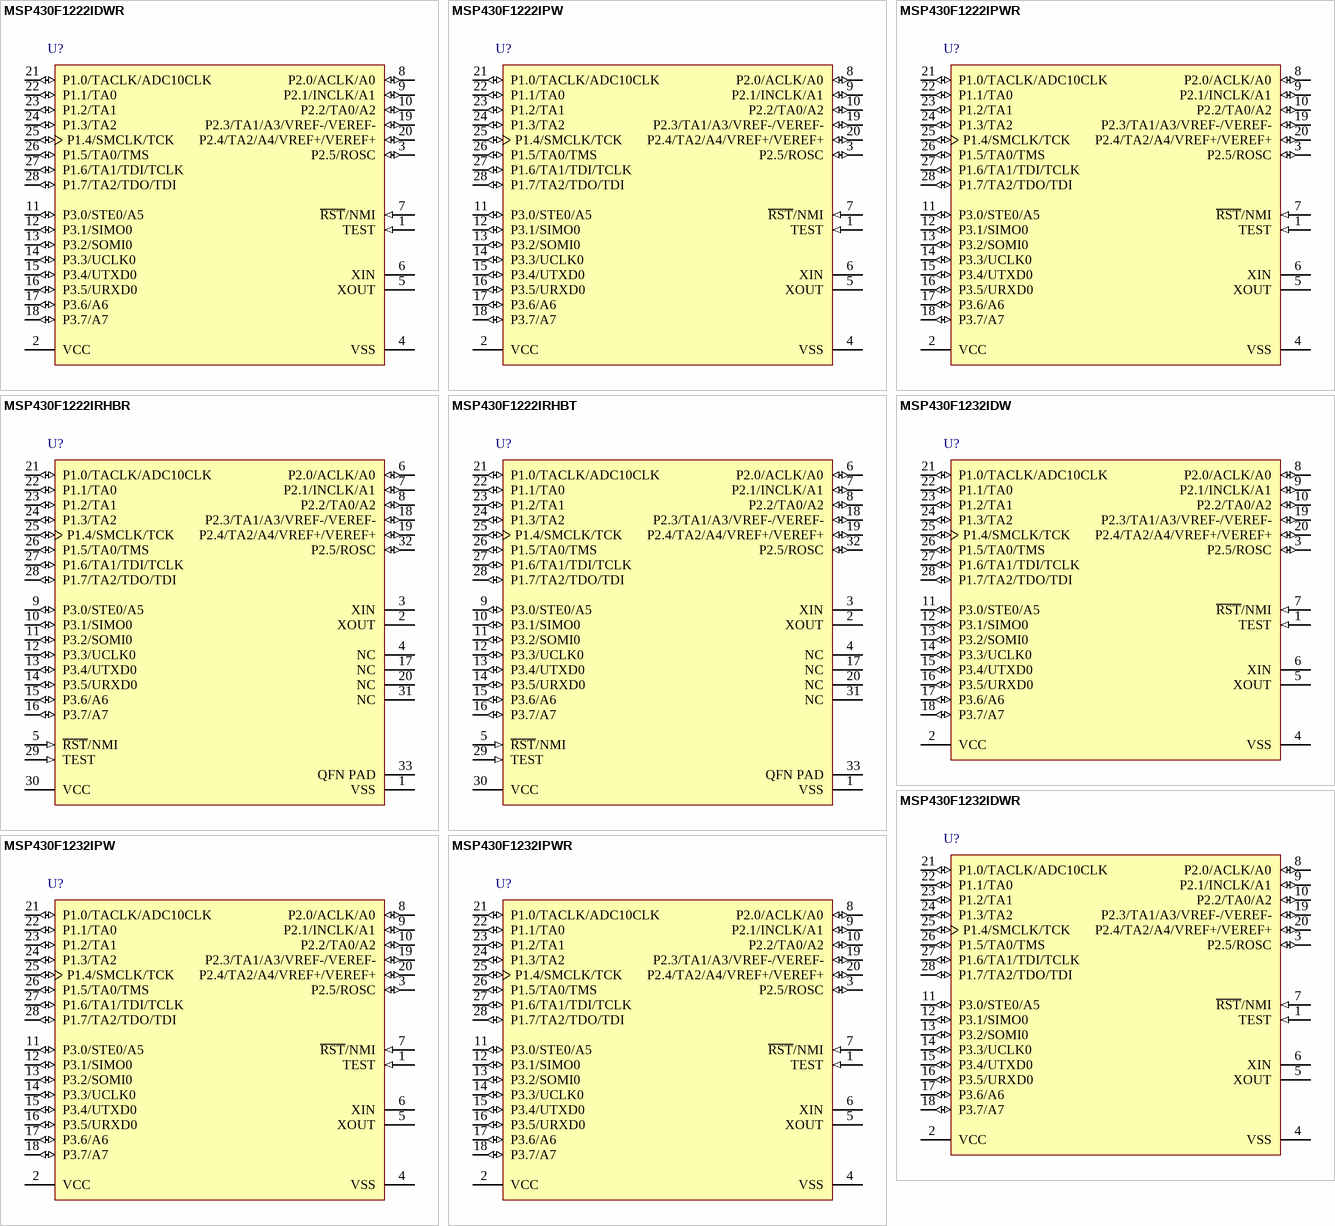
[diagram p42: symbols MSP430F1222IDWR to MSP430F1232IPWR]

## MSP430F1222IDWR
designator U?
8 MHz Mixed Signal Microcontroller with 4 KB Flash, 256 B SRAM and 22 GPIOs, -40 to 85 degC, 28-SOIC (DW), Green (RoHS & no Sb/Br); Manufacturer: Texas Instruments; PartNumber: MSP430F1222IDWR; ADC: 10-bit SAR; ADC Channels: 8; Brown Out Reset: Yes; Flash(KB): 4; GPIO: 22; SRAM(B): 256; SubFamily: 1 Series; Timers - 16-bit: 1; DatasheetVersion: SLAS361D; PackageVersion: 4040000-6/G; PackageReference: DW28; PackageDescription: 28-Pin Plastic Small Outline, Body 17.90 x 7.50 mm, Pitch 1.27 mm; Supplier 1: Digi-Key; Supplier Part Number 1: MSP430F1222IDWR-ND; Supplier 2: Newark; Supplier Part Number 2: 02E6694; Supplier 3: Mouser; Supplier Part Number 3: 595-430F1222IDWR; Eco-Plan: Green (RoHS & no Sb/Br); Frequency(MHz): 8; Temp Sensor: Yes; USART: 1; Watchdog: Yes; Mounting Technology: Surface Mount; Code_JEDEC: MS-013; ComponentLink1Description: Manufacturer URL; ComponentLink1URL: http://www.ti.com/; ComponentLink2Description: Datasheet; ComponentLink2URL: http://www.ti.com/general/docs/lit/getliterature.tsp?genericPartNumber=MSP430F1222&fileType=pdf; ComponentLink3Description: Package Specification; ComponentLink3URL: http://www.ti.com/lit/ml/mpds175a/mpds175a.pdf
footprint TI-DW28_N (SOIC, 28-Leads, Body 17.9x7.5mm, Pitch 1.27mm, IPC Medium Density)
pins: 1 TEST (in) "Selects test mode for JTAG pins on P1.x", 2 VCC (power) "Supply voltage", 3 P2.5/ROSC (io), 4 VSS (power) "Ground reference", 5 XOUT "Output terminal of crystal oscillator", 6 XIN "Input terminal of crystal oscillator", 7 ~{RST}/NMI (in), 8 P2.0/ACLK/A0 (io), 9 P2.1/INCLK/A1 (io), 10 P2.2/TA0/A2 (io), 11 P3.0/STE0/A5 (io), 12 P3.1/SIMO0 (io), 13 P3.2/SOMI0 (io), 14 P3.3/UCLK0 (io), 15 P3.4/UTXD0 (io), 16 P3.5/URXD0 (io), 17 P3.6/A6 (io), 18 P3.7/A7 (io), 19 P2.3/TA1/A3/VREF-/VEREF- (io), 20 P2.4/TA2/A4/VREF+/VEREF+ (io), 21 P1.0/TACLK/ADC10CLK (io), 22 P1.1/TA0 (io), 23 P1.2/TA1 (io), 24 P1.3/TA2 (io), 25 P1.4/SMCLK/TCK (io), 26 P1.5/TA0/TMS (io), 27 P1.6/TA1/TDI/TCLK (io), 28 P1.7/TA2/TDO/TDI (io)

## MSP430F1222IPW
designator U?
8 MHz Mixed Signal Microcontroller with 4 KB Flash, 256 B SRAM and 22 GPIOs, -40 to 85 degC, 28-SOP (PW), Green (RoHS & no Sb/Br); Manufacturer: Texas Instruments; PartNumber: MSP430F1222IPW; ADC: 10-bit SAR; ADC Channels: 8; Brown Out Reset: Yes; Flash(KB): 4; GPIO: 22; SRAM(B): 256; SubFamily: 1 Series; Timers - 16-bit: 1; DatasheetVersion: SLAS361D; PackageVersion: 4040064-7/G; PackageReference: PW28; PackageDescription: 28-Pin Plastic Small Outline, Body 9.7 x 4.4 mm, Pitch 0.65 mm; Supplier 1: Digi-Key; Supplier Part Number 1: 296-13781-5-ND; Supplier 2: Farnell; Supplier Part Number 2: 1471265; Supplier 3: Newark; Supplier Part Number 3: 02E6695; Supplier 4: Mouser; Supplier Part Number 4: 595-430F1222IPW; Eco-Plan: Green (RoHS & no Sb/Br); Frequency(MHz): 8; Temp Sensor: Yes; USART: 1; Watchdog: Yes; Mounting Technology: Surface Mount; Code_JEDEC: MO-153; ComponentLink1Description: Manufacturer URL; ComponentLink1URL: http://www.ti.com/; ComponentLink2Description: Datasheet; ComponentLink2URL: http://www.ti.com/general/docs/lit/getliterature.tsp?genericPartNumber=MSP430F1222&fileType=pdf; ComponentLink3Description: Package Specification; ComponentLink3URL: http://www.ti.com/litv/pdf/mpds364
footprint TI-PW28_N (SOP, 28-Leads, Body 9.7x4.4mm, Pitch 0.65mm, IPC Medium Density)
pins: 1 TEST (in) "Selects test mode for JTAG pins on P1.x", 2 VCC (power) "Supply voltage", 3 P2.5/ROSC (io), 4 VSS (power) "Ground reference", 5 XOUT "Output terminal of crystal oscillator", 6 XIN "Input terminal of crystal oscillator", 7 ~{RST}/NMI (in), 8 P2.0/ACLK/A0 (io), 9 P2.1/INCLK/A1 (io), 10 P2.2/TA0/A2 (io), 11 P3.0/STE0/A5 (io), 12 P3.1/SIMO0 (io), 13 P3.2/SOMI0 (io), 14 P3.3/UCLK0 (io), 15 P3.4/UTXD0 (io), 16 P3.5/URXD0 (io), 17 P3.6/A6 (io), 18 P3.7/A7 (io), 19 P2.3/TA1/A3/VREF-/VEREF- (io), 20 P2.4/TA2/A4/VREF+/VEREF+ (io), 21 P1.0/TACLK/ADC10CLK (io), 22 P1.1/TA0 (io), 23 P1.2/TA1 (io), 24 P1.3/TA2 (io), 25 P1.4/SMCLK/TCK (io), 26 P1.5/TA0/TMS (io), 27 P1.6/TA1/TDI/TCLK (io), 28 P1.7/TA2/TDO/TDI (io)

## MSP430F1222IPWR
designator U?
8 MHz Mixed Signal Microcontroller with 4 KB Flash, 256 B SRAM and 22 GPIOs, -40 to 85 degC, 28-SOP (PW), Green (RoHS & no Sb/Br); Manufacturer: Texas Instruments; PartNumber: MSP430F1222IPWR; ADC: 10-bit SAR; ADC Channels: 8; Brown Out Reset: Yes; Flash(KB): 4; GPIO: 22; SRAM(B): 256; SubFamily: 1 Series; Timers - 16-bit: 1; DatasheetVersion: SLAS361D; PackageVersion: 4040064-7/G; PackageReference: PW28; PackageDescription: 28-Pin Plastic Small Outline, Body 9.7 x 4.4 mm, Pitch 0.65 mm; Supplier 1: Digi-Key; Supplier Part Number 1: MSP430F1222IPWR-ND; Supplier 2: Newark; Supplier Part Number 2: 02E6696; Supplier 3: Mouser; Supplier Part Number 3: 595-430F1222IPWR; Eco-Plan: Green (RoHS & no Sb/Br); Frequency(MHz): 8; Temp Sensor: Yes; USART: 1; Watchdog: Yes; Mounting Technology: Surface Mount; Code_JEDEC: MO-153; ComponentLink1Description: Manufacturer URL; ComponentLink1URL: http://www.ti.com/; ComponentLink2Description: Datasheet; ComponentLink2URL: http://www.ti.com/general/docs/lit/getliterature.tsp?genericPartNumber=MSP430F1222&fileType=pdf; ComponentLink3Description: Package Specification; ComponentLink3URL: http://www.ti.com/litv/pdf/mpds364
footprint TI-PW28_N (SOP, 28-Leads, Body 9.7x4.4mm, Pitch 0.65mm, IPC Medium Density)
pins: 1 TEST (in) "Selects test mode for JTAG pins on P1.x", 2 VCC (power) "Supply voltage", 3 P2.5/ROSC (io), 4 VSS (power) "Ground reference", 5 XOUT "Output terminal of crystal oscillator", 6 XIN "Input terminal of crystal oscillator", 7 ~{RST}/NMI (in), 8 P2.0/ACLK/A0 (io), 9 P2.1/INCLK/A1 (io), 10 P2.2/TA0/A2 (io), 11 P3.0/STE0/A5 (io), 12 P3.1/SIMO0 (io), 13 P3.2/SOMI0 (io), 14 P3.3/UCLK0 (io), 15 P3.4/UTXD0 (io), 16 P3.5/URXD0 (io), 17 P3.6/A6 (io), 18 P3.7/A7 (io), 19 P2.3/TA1/A3/VREF-/VEREF- (io), 20 P2.4/TA2/A4/VREF+/VEREF+ (io), 21 P1.0/TACLK/ADC10CLK (io), 22 P1.1/TA0 (io), 23 P1.2/TA1 (io), 24 P1.3/TA2 (io), 25 P1.4/SMCLK/TCK (io), 26 P1.5/TA0/TMS (io), 27 P1.6/TA1/TDI/TCLK (io), 28 P1.7/TA2/TDO/TDI (io)

## MSP430F1222IRHBR
designator U?
8 MHz Mixed Signal Microcontroller with 4 KB Flash, 256 B SRAM and 22 GPIOs, -40 to 85 degC, 32-QFN (RHB), Green (RoHS & no Sb/Br); Manufacturer: Texas Instruments; PartNumber: MSP430F1222IRHBR; ADC: 10-bit SAR; ADC Channels: 8; Brown Out Reset: Yes; Flash(KB): 4; GPIO: 22; SRAM(B): 256; SubFamily: 1 Series; Timers - 16-bit: 1; DatasheetVersion: SLAS361D; PackageVersion: 4204326/D; PackageReference: RHB32-3450X3450TP; PackageDescription: 32-Pin Plastic Flat Pack, Body 5 x 5 mm, Pitch 0.5 mm; Supplier 1: Digi-Key; Supplier Part Number 1: MSP430F1222IRHBR-ND; Supplier 2: Newark; Supplier Part Number 2: 01J0576; Supplier 3: Mouser; Supplier Part Number 3: 595-430F1222IRHBR; Eco-Plan: Green (RoHS & no Sb/Br); Frequency(MHz): 8; Temp Sensor: Yes; USART: 1; Watchdog: Yes; Mounting Technology: Surface Mount; Code_JEDEC: MO-220; ComponentLink1Description: Manufacturer URL; ComponentLink1URL: http://www.ti.com/; ComponentLink2Description: Datasheet; ComponentLink2URL: http://www.ti.com/general/docs/lit/getliterature.tsp?genericPartNumber=MSP430F1222&fileType=pdf; ComponentLink3Description: Package Specification; ComponentLink3URL: http://www.ti.com/lit/ml/mpqf130c/mpqf130c.pdf
footprint TI-RHB32-3450X3450TP_N (QFN, 32-Leads, Body 5x5mm, Pitch 0.5mm, Thermal Pad 3.45x3.45mm, IPC Medium Density)
pins: 1 VSS (power) "Ground reference", 2 XOUT "Output terminal of crystal oscillator", 3 XIN "Input terminal of crystal oscillator", 4 NC "Not connected internally. Recommended connection to VSS", 5 ~{RST}/NMI (in), 6 P2.0/ACLK/A0 (io), 7 P2.1/INCLK/A1 (io), 8 P2.2/TA0/A2 (io), 9 P3.0/STE0/A5 (io), 10 P3.1/SIMO0 (io), 11 P3.2/SOMI0 (io), 12 P3.3/UCLK0 (io), 13 P3.4/UTXD0 (io), 14 P3.5/URXD0 (io), 15 P3.6/A6 (io), 16 P3.7/A7 (io), 17 NC "Not connected internally. Recommended connection to VSS", 18 P2.3/TA1/A3/VREF-/VEREF- (io), 19 P2.4/TA2/A4/VREF+/VEREF+ (io), 20 NC "Not connected internally. Recommended connection to VSS", 21 P1.0/TACLK/ADC10CLK (io), 22 P1.1/TA0 (io), 23 P1.2/TA1 (io), 24 P1.3/TA2 (io), 25 P1.4/SMCLK/TCK (io), 26 P1.5/TA0/TMS (io), 27 P1.6/TA1/TDI/TCLK (io), 28 P1.7/TA2/TDO/TDI (io), 29 TEST (in) "Selects test mode for JTAG pins on P1.x", 30 VCC (power) "Supply voltage", 31 NC "Not connected internally. Recommended connection to VSS", 32 P2.5/ROSC (io), 33 QFN PAD (power) "QFN package pad connection to VSS recommended"

## MSP430F1222IRHBT
designator U?
8 MHz Mixed Signal Microcontroller with 4 KB Flash, 256 B SRAM and 22 GPIOs, -40 to 85 degC, 32-pin QFN (RHB), Green (RoHS & no Sb/Br); Manufacturer: Texas Instruments; PartNumber: MSP430F1222IRHBT; ADC: 10-bit SAR; ADC Channels: 8; Brown Out Reset: Yes; Flash(KB): 4; GPIO: 22; SRAM(B): 256; SubFamily: 1 Series; Timers - 16-bit: 1; DatasheetVersion: SLAS361D; PackageVersion: 4204326/D; PackageReference: RHB32-3450X3450TP; PackageDescription: 32-Pin Plastic Flat Pack, Body 5 x 5 mm, Pitch 0.5 mm; Supplier 1: Digi-Key; Supplier Part Number 1: 296-16794-2-ND; Supplier 2: Digi-Key; Supplier Part Number 2: 296-16794-1-ND; Supplier 3: Digi-Key; Supplier Part Number 3: 296-16794-6-ND; Supplier 4: Farnell; Supplier Part Number 4: 1537159; Supplier 5: Newark; Supplier Part Number 5: 01J0577; Supplier 6: Mouser; Supplier Part Number 6: 595-430F1222IRHBT; Eco-Plan: Green (RoHS & no Sb/Br); Frequency(MHz): 8; Temp Sensor: Yes; USART: 1; Watchdog: Yes; Mounting Technology: Surface Mount; Code_JEDEC: MO-220; ComponentLink1Description: Manufacturer URL; ComponentLink1URL: http://www.ti.com/; ComponentLink2Description: Datasheet; ComponentLink2URL: http://www.ti.com/general/docs/lit/getliterature.tsp?genericPartNumber=MSP430F1222&fileType=pdf; ComponentLink3Description: Package Specification; ComponentLink3URL: http://www.ti.com/lit/ml/mpqf130c/mpqf130c.pdf
footprint TI-RHB32-3450X3450TP_N (QFN, 32-Leads, Body 5x5mm, Pitch 0.5mm, Thermal Pad 3.45x3.45mm, IPC Medium Density)
pins: 1 VSS (power) "Ground reference", 2 XOUT "Output terminal of crystal oscillator", 3 XIN "Input terminal of crystal oscillator", 4 NC "Not connected internally. Recommended connection to VSS", 5 ~{RST}/NMI (in), 6 P2.0/ACLK/A0 (io), 7 P2.1/INCLK/A1 (io), 8 P2.2/TA0/A2 (io), 9 P3.0/STE0/A5 (io), 10 P3.1/SIMO0 (io), 11 P3.2/SOMI0 (io), 12 P3.3/UCLK0 (io), 13 P3.4/UTXD0 (io), 14 P3.5/URXD0 (io), 15 P3.6/A6 (io), 16 P3.7/A7 (io), 17 NC "Not connected internally. Recommended connection to VSS", 18 P2.3/TA1/A3/VREF-/VEREF- (io), 19 P2.4/TA2/A4/VREF+/VEREF+ (io), 20 NC "Not connected internally. Recommended connection to VSS", 21 P1.0/TACLK/ADC10CLK (io), 22 P1.1/TA0 (io), 23 P1.2/TA1 (io), 24 P1.3/TA2 (io), 25 P1.4/SMCLK/TCK (io), 26 P1.5/TA0/TMS (io), 27 P1.6/TA1/TDI/TCLK (io), 28 P1.7/TA2/TDO/TDI (io), 29 TEST (in) "Selects test mode for JTAG pins on P1.x", 30 VCC (power) "Supply voltage", 31 NC "Not connected internally. Recommended connection to VSS", 32 P2.5/ROSC (io), 33 QFN PAD (power) "QFN package pad connection to VSS recommended"

## MSP430F1232IDW
designator U?
8 MHz Mixed Signal Microcontroller with 8 KB Flash, 256 B SRAM and 22 GPIOs, -40 to 85 degC, 28-pin SOIC (DW), Green (RoHS & no Sb/Br); Manufacturer: Texas Instruments; PartNumber: MSP430F1232IDW; ADC: 10-bit SAR; ADC Channels: 8; Brown Out Reset: Yes; GPIO: 22; SRAM(B): 256; SubFamily: 1 Series; Timers - 16-bit: 1; DatasheetVersion: SLAS361D; PackageVersion: 4040000-6/G; PackageReference: DW28; PackageDescription: 28-Pin Plastic Small Outline, Body 17.90 x 7.50 mm, Pitch 1.27 mm; Supplier 1: Digi-Key; Supplier Part Number 1: 296-13782-5-ND; Supplier 2: Farnell; Supplier Part Number 2: 1471266; Supplier 3: Newark; Supplier Part Number 3: 02E6697; Supplier 4: Mouser; Supplier Part Number 4: 595-430F1232IDW; Eco-Plan: Green (RoHS & no Sb/Br); Flash(KB): 8; Frequency(MHz): 8; Temp Sensor: Yes; USART: 1; Watchdog: Yes; Mounting Technology: Surface Mount; Code_JEDEC: MS-013; ComponentLink1Description: Manufacturer URL; ComponentLink1URL: http://www.ti.com/; ComponentLink2Description: Datasheet; ComponentLink2URL: http://www.ti.com/general/docs/lit/getliterature.tsp?genericPartNumber=MSP430F1232&fileType=pdf; ComponentLink3Description: Package Specification; ComponentLink3URL: http://www.ti.com/lit/ml/mpds175a/mpds175a.pdf
footprint TI-DW28_N (SOIC, 28-Leads, Body 17.9x7.5mm, Pitch 1.27mm, IPC Medium Density)
pins: 1 TEST (in) "Selects test mode for JTAG pins on P1.x", 2 VCC (power) "Supply voltage", 3 P2.5/ROSC (io), 4 VSS (power) "Ground reference", 5 XOUT "Output terminal of crystal oscillator", 6 XIN "Input terminal of crystal oscillator", 7 ~{RST}/NMI (in), 8 P2.0/ACLK/A0 (io), 9 P2.1/INCLK/A1 (io), 10 P2.2/TA0/A2 (io), 11 P3.0/STE0/A5 (io), 12 P3.1/SIMO0 (io), 13 P3.2/SOMI0 (io), 14 P3.3/UCLK0 (io), 15 P3.4/UTXD0 (io), 16 P3.5/URXD0 (io), 17 P3.6/A6 (io), 18 P3.7/A7 (io), 19 P2.3/TA1/A3/VREF-/VEREF- (io), 20 P2.4/TA2/A4/VREF+/VEREF+ (io), 21 P1.0/TACLK/ADC10CLK (io), 22 P1.1/TA0 (io), 23 P1.2/TA1 (io), 24 P1.3/TA2 (io), 25 P1.4/SMCLK/TCK (io), 26 P1.5/TA0/TMS (io), 27 P1.6/TA1/TDI/TCLK (io), 28 P1.7/TA2/TDO/TDI (io)

## MSP430F1232IDWR
designator U?
8 MHz Mixed Signal Microcontroller with 8 KB Flash, 256 B SRAM and 22 GPIOs, -40 to 85 degC, 28-pin SOIC (DW), Green (RoHS & no Sb/Br); Manufacturer: Texas Instruments; PartNumber: MSP430F1232IDWR; ADC: 10-bit SAR; ADC Channels: 8; Brown Out Reset: Yes; GPIO: 22; SRAM(B): 256; SubFamily: 1 Series; Timers - 16-bit: 1; DatasheetVersion: SLAS361D; PackageVersion: 4040000-6/G; PackageReference: DW28; PackageDescription: 28-Pin Plastic Small Outline, Body 17.90 x 7.50 mm, Pitch 1.27 mm; Supplier 1: Digi-Key; Supplier Part Number 1: 296-26176-2-ND; Supplier 2: Digi-Key; Supplier Part Number 2: 296-26176-1-ND; Supplier 3: Digi-Key; Supplier Part Number 3: 296-26176-6-ND; Supplier 4: Newark; Supplier Part Number 4: 02E6698; Supplier 5: Mouser; Supplier Part Number 5: 595-430F1232IDWR; Eco-Plan: Green (RoHS & no Sb/Br); Flash(KB): 8; Frequency(MHz): 8; Temp Sensor: Yes; USART: 1; Watchdog: Yes; Mounting Technology: Surface Mount; Code_JEDEC: MS-013; ComponentLink1Description: Manufacturer URL; ComponentLink1URL: http://www.ti.com/; ComponentLink2Description: Datasheet; ComponentLink2URL: http://www.ti.com/general/docs/lit/getliterature.tsp?genericPartNumber=MSP430F1232&fileType=pdf; ComponentLink3Description: Package Specification; ComponentLink3URL: http://www.ti.com/lit/ml/mpds175a/mpds175a.pdf
footprint TI-DW28_N (SOIC, 28-Leads, Body 17.9x7.5mm, Pitch 1.27mm, IPC Medium Density)
pins: 1 TEST (in) "Selects test mode for JTAG pins on P1.x", 2 VCC (power) "Supply voltage", 3 P2.5/ROSC (io), 4 VSS (power) "Ground reference", 5 XOUT "Output terminal of crystal oscillator", 6 XIN "Input terminal of crystal oscillator", 7 ~{RST}/NMI (in), 8 P2.0/ACLK/A0 (io), 9 P2.1/INCLK/A1 (io), 10 P2.2/TA0/A2 (io), 11 P3.0/STE0/A5 (io), 12 P3.1/SIMO0 (io), 13 P3.2/SOMI0 (io), 14 P3.3/UCLK0 (io), 15 P3.4/UTXD0 (io), 16 P3.5/URXD0 (io), 17 P3.6/A6 (io), 18 P3.7/A7 (io), 19 P2.3/TA1/A3/VREF-/VEREF- (io), 20 P2.4/TA2/A4/VREF+/VEREF+ (io), 21 P1.0/TACLK/ADC10CLK (io), 22 P1.1/TA0 (io), 23 P1.2/TA1 (io), 24 P1.3/TA2 (io), 25 P1.4/SMCLK/TCK (io), 26 P1.5/TA0/TMS (io), 27 P1.6/TA1/TDI/TCLK (io), 28 P1.7/TA2/TDO/TDI (io)

## MSP430F1232IPW
designator U?
8 MHz Mixed Signal Microcontroller with 8 KB Flash, 256 B SRAM and 22 GPIOs, -40 to 85 degC, 28-pin SOP (PW), Green (RoHS & no Sb/Br); Manufacturer: Texas Instruments; PartNumber: MSP430F1232IPW; ADC: 10-bit SAR; ADC Channels: 8; Brown Out Reset: Yes; GPIO: 22; SRAM(B): 256; SubFamily: 1 Series; Timers - 16-bit: 1; DatasheetVersion: SLAS361D; PackageVersion: 4040064-7/G; PackageReference: PW28; PackageDescription: 28-Pin Plastic Small Outline, Body 9.7 x 4.4 mm, Pitch 0.65 mm; Supplier 1: Digi-Key; Supplier Part Number 1: 296-13783-5-ND; Supplier 2: Farnell; Supplier Part Number 2: 1471267; Supplier 3: Newark; Supplier Part Number 3: 34K8184; Supplier 4: Mouser; Supplier Part Number 4: 595-430F1232IPW; Eco-Plan: Green (RoHS & no Sb/Br); Flash(KB): 8; Frequency(MHz): 8; Temp Sensor: Yes; USART: 1; Watchdog: Yes; Mounting Technology: Surface Mount; Code_JEDEC: MO-153; ComponentLink1Description: Manufacturer URL; ComponentLink1URL: http://www.ti.com/; ComponentLink2Description: Datasheet; ComponentLink2URL: http://www.ti.com/general/docs/lit/getliterature.tsp?genericPartNumber=MSP430F1232&fileType=pdf; ComponentLink3Description: Package Specification; ComponentLink3URL: http://www.ti.com/litv/pdf/mpds364
footprint TI-PW28_N (SOP, 28-Leads, Body 9.7x4.4mm, Pitch 0.65mm, IPC Medium Density)
pins: 1 TEST (in) "Selects test mode for JTAG pins on P1.x", 2 VCC (power) "Supply voltage", 3 P2.5/ROSC (io), 4 VSS (power) "Ground reference", 5 XOUT "Output terminal of crystal oscillator", 6 XIN "Input terminal of crystal oscillator", 7 ~{RST}/NMI (in), 8 P2.0/ACLK/A0 (io), 9 P2.1/INCLK/A1 (io), 10 P2.2/TA0/A2 (io), 11 P3.0/STE0/A5 (io), 12 P3.1/SIMO0 (io), 13 P3.2/SOMI0 (io), 14 P3.3/UCLK0 (io), 15 P3.4/UTXD0 (io), 16 P3.5/URXD0 (io), 17 P3.6/A6 (io), 18 P3.7/A7 (io), 19 P2.3/TA1/A3/VREF-/VEREF- (io), 20 P2.4/TA2/A4/VREF+/VEREF+ (io), 21 P1.0/TACLK/ADC10CLK (io), 22 P1.1/TA0 (io), 23 P1.2/TA1 (io), 24 P1.3/TA2 (io), 25 P1.4/SMCLK/TCK (io), 26 P1.5/TA0/TMS (io), 27 P1.6/TA1/TDI/TCLK (io), 28 P1.7/TA2/TDO/TDI (io)

## MSP430F1232IPWR
designator U?
8 MHz Mixed Signal Microcontroller with 8 KB Flash, 256 B SRAM and 22 GPIOs, -40 to 85 degC, 28-pin SOP (PW), Green (RoHS & no Sb/Br); Manufacturer: Texas Instruments; PartNumber: MSP430F1232IPWR; ADC: 10-bit SAR; ADC Channels: 8; Brown Out Reset: Yes; GPIO: 22; SRAM(B): 256; SubFamily: 1 Series; Timers - 16-bit: 1; DatasheetVersion: SLAS361D; PackageVersion: 4040064-7/G; PackageReference: PW28; PackageDescription: 28-Pin Plastic Small Outline, Body 9.7 x 4.4 mm, Pitch 0.65 mm; Supplier 1: Digi-Key; Supplier Part Number 1: 296-26177-2-ND; Supplier 2: Digi-Key; Supplier Part Number 2: 296-26177-1-ND; Supplier 3: Digi-Key; Supplier Part Number 3: 296-26177-6-ND; Supplier 4: Newark; Supplier Part Number 4: 02E6700; Supplier 5: Mouser; Supplier Part Number 5: 595-430F1232IPWR; Eco-Plan: Green (RoHS & no Sb/Br); Flash(KB): 8; Frequency(MHz): 8; Temp Sensor: Yes; USART: 1; Watchdog: Yes; Mounting Technology: Surface Mount; Code_JEDEC: MO-153; ComponentLink1Description: Manufacturer URL; ComponentLink1URL: http://www.ti.com/; ComponentLink2Description: Datasheet; ComponentLink2URL: http://www.ti.com/general/docs/lit/getliterature.tsp?genericPartNumber=MSP430F1232&fileType=pdf; ComponentLink3Description: Package Specification; ComponentLink3URL: http://www.ti.com/litv/pdf/mpds364
footprint TI-PW28_N (SOP, 28-Leads, Body 9.7x4.4mm, Pitch 0.65mm, IPC Medium Density)
pins: 1 TEST (in) "Selects test mode for JTAG pins on P1.x", 2 VCC (power) "Supply voltage", 3 P2.5/ROSC (io), 4 VSS (power) "Ground reference", 5 XOUT "Output terminal of crystal oscillator", 6 XIN "Input terminal of crystal oscillator", 7 ~{RST}/NMI (in), 8 P2.0/ACLK/A0 (io), 9 P2.1/INCLK/A1 (io), 10 P2.2/TA0/A2 (io), 11 P3.0/STE0/A5 (io), 12 P3.1/SIMO0 (io), 13 P3.2/SOMI0 (io), 14 P3.3/UCLK0 (io), 15 P3.4/UTXD0 (io), 16 P3.5/URXD0 (io), 17 P3.6/A6 (io), 18 P3.7/A7 (io), 19 P2.3/TA1/A3/VREF-/VEREF- (io), 20 P2.4/TA2/A4/VREF+/VEREF+ (io), 21 P1.0/TACLK/ADC10CLK (io), 22 P1.1/TA0 (io), 23 P1.2/TA1 (io), 24 P1.3/TA2 (io), 25 P1.4/SMCLK/TCK (io), 26 P1.5/TA0/TMS (io), 27 P1.6/TA1/TDI/TCLK (io), 28 P1.7/TA2/TDO/TDI (io)

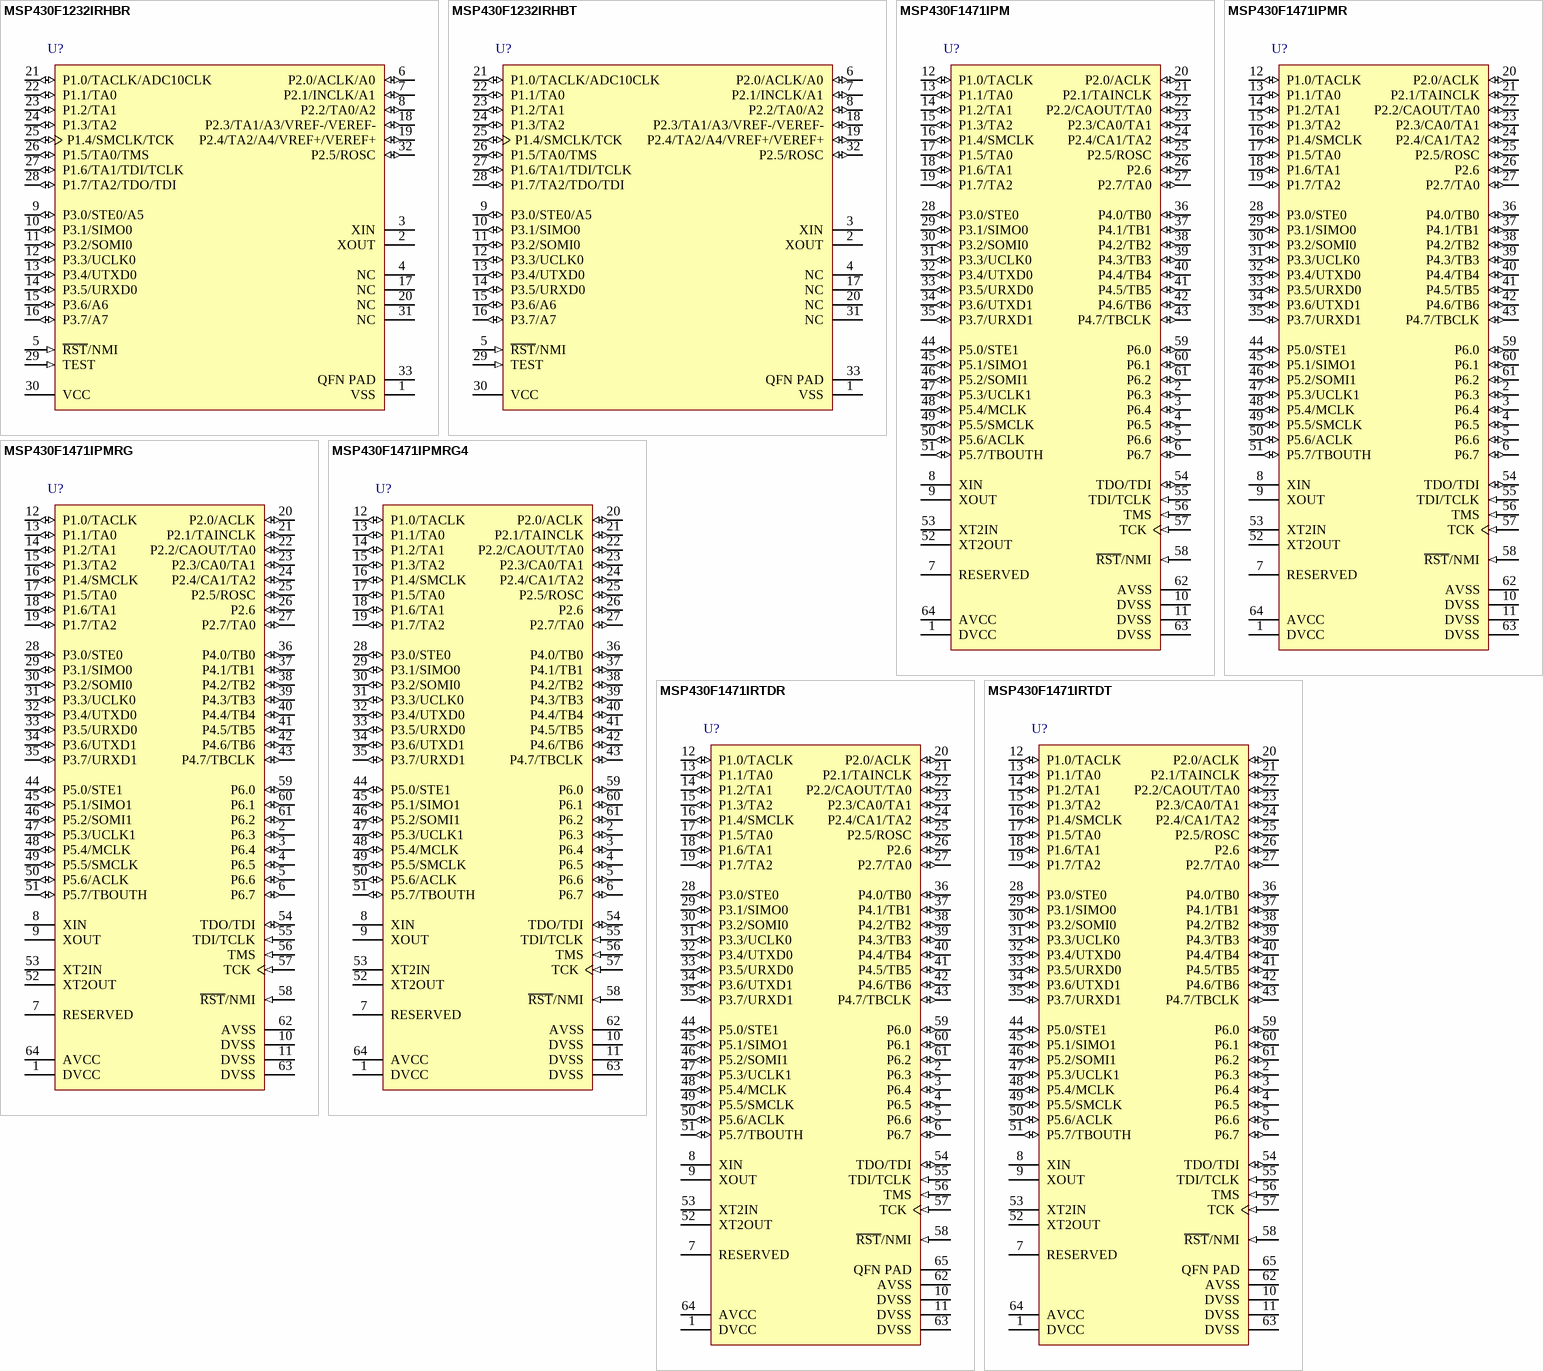
[diagram p43: symbols MSP430F1232IRHBR to MSP430F1471IRTDT]